# EAGLE library part OAK (library SPCoast)
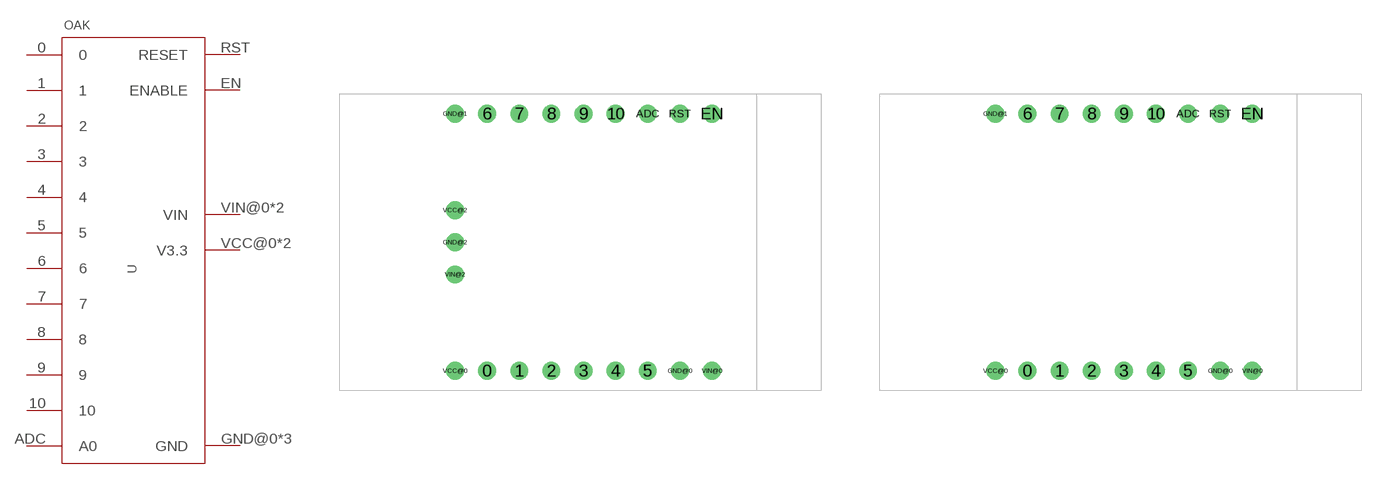
[diagram p44: symbol with the pads of OAK; footprints OAK, OAK-NO-SHIELD]

Designator prefix -

## OAKFULL  [OAK]
0  0
1  1
2  2
3  3
4  4
5  5
6  6
7  7
8  8
9  9
10  10
ADC  A0
EN  ENABLE
GND@0  GND
GND@1  GND
GND@2  GND
RST  RESET
VCC@0  V3.3
VCC@2  V3.3
VIN@0  VIN
VIN@2  VIN

## OAK  [OAK-NO-SHIELD]
0  0
1  1
2  2
3  3
4  4
5  5
6  6
7  7
8  8
9  9
10  10
ADC  A0
EN  ENABLE
GND@0  GND
GND@1  GND
RST  RESET
VCC@0  V3.3
VIN@0  VIN

## Footprint OAK (pad centres in mm)
drill 0.9: 0 -6.35,-10.16; 1 -3.81,-10.16; 2 -1.27,-10.16; 3 1.27,-10.16; 4 3.81,-10.16; 5 6.35,-10.16; 6 -6.35,10.16; 7 -3.81,10.16; 8 -1.27,10.16; 9 1.27,10.16; 10 3.81,10.16; ADC 6.35,10.16; EN 11.43,10.16; GND@0 8.89,-10.16; GND@1 -8.89,10.16; GND@2 -8.89,0; RST 8.89,10.16; VCC@0 -8.89,-10.16; VCC@2 -8.89,2.54; VIN@0 11.43,-10.16; VIN@2 -8.89,-2.54

## Footprint OAK-NO-SHIELD (pad centres in mm)
drill 0.9: 0 -6.35,-10.16; 1 -3.81,-10.16; 2 -1.27,-10.16; 3 1.27,-10.16; 4 3.81,-10.16; 5 6.35,-10.16; 6 -6.35,10.16; 7 -3.81,10.16; 8 -1.27,10.16; 9 1.27,10.16; 10 3.81,10.16; ADC 6.35,10.16; EN 11.43,10.16; GND@0 8.89,-10.16; GND@1 -8.89,10.16; RST 8.89,10.16; VCC@0 -8.89,-10.16; VIN@0 11.43,-10.16